# Altium integrated library BD137G.IntLib: 1 symbol
Pins are listed as number, name and electrical type; pins without a type are passive.

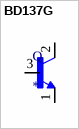
[diagram p0: symbol BD137G]

## BD137G
designator Q
Bipolar _BJT_ Transistor NPN 60V 1.5A 1.25W Through Hole TO-225AA; MF: ON Semiconductor; MP: BD137G; Package: TO-126-3 ON Semiconductor; Availability: Unavailable; Value: *; SnapEDA_Link: https://www.snapeda.com/parts/BD137G/ON%20Semiconductor/view-part/414838/?ref=snap; Price: None
footprint TO229P300X760X1237-3P
pins: 1 E, 2 C, 3 B